# EAGLE library part M5-PQFP160 (library amd-mach)
AMD MACH SERIES
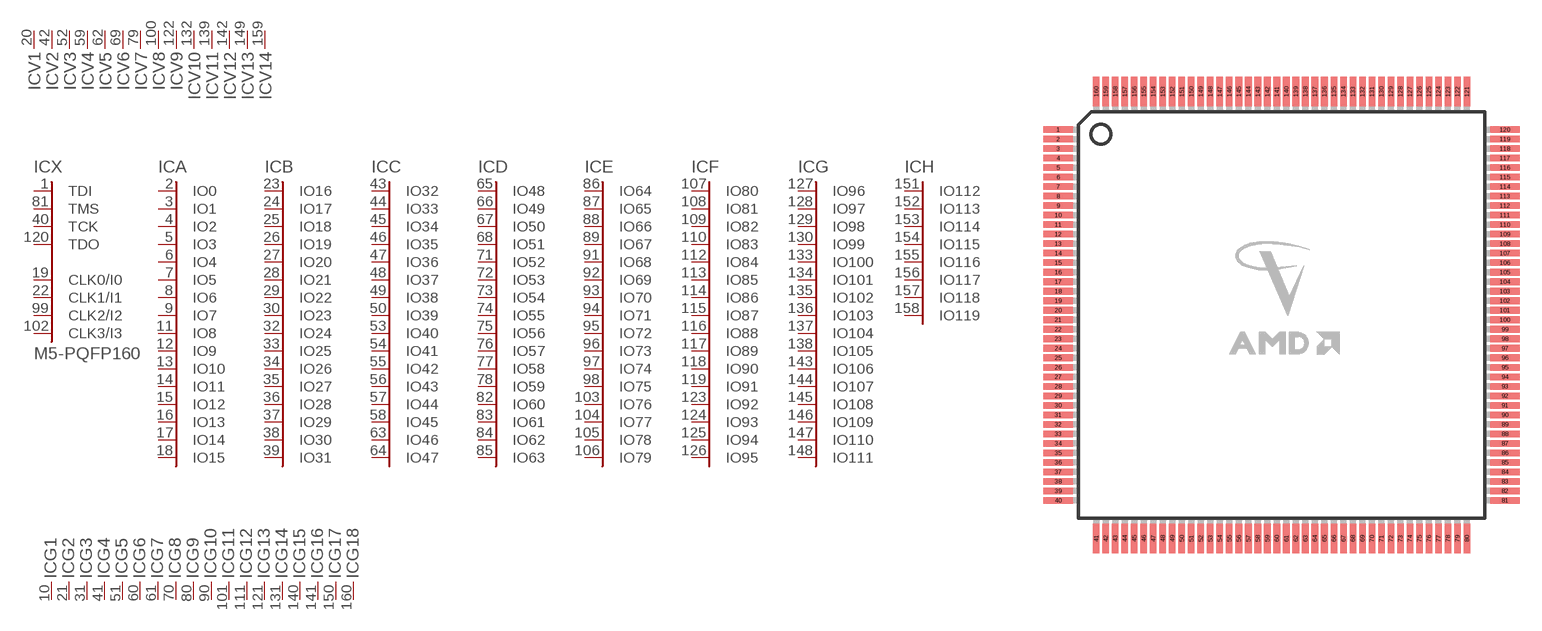
[diagram p19: symbol with the pads of PQFP160; footprint PQFP160]

Designator prefix IC; gates X=M5-CTRL A=IO15 B=IO31 C=IO47 D=IO63 E=IO79 F=IO95 G=IO111 H=IO119 G1=GND G2=GND G3=GND G4=GND G5=GND G6=GND G7=GND G8=GND G9=GND G10=GND G11=GND G12=GND G13=GND G14=GND G15=GND G16=GND G17=GND G18=GND V1=VCC V2=VCC V3=VCC V4=VCC V5=VCC V6=VCC V7=VCC V8=VCC V9=VCC V10=VCC V11=VCC V12=VCC V13=VCC V14=VCC

## M5-PQFP160 (OC_FARNELL: unknown; OC_NEWARK: unknown)  [PQFP160]
1  X:TDI  in
2  A:IO0
3  A:IO1
4  A:IO2
5  A:IO3
6  A:IO4
7  A:IO5
8  A:IO6
9  A:IO7
10  G1:GND  pwr
11  A:IO8
12  A:IO9
13  A:IO10
14  A:IO11
15  A:IO12
16  A:IO13
17  A:IO14
18  A:IO15
19  X:CLK0/I0  in
20  V1:VCC  pwr
21  G2:GND  pwr
22  X:CLK1/I1  in
23  B:IO16
24  B:IO17
25  B:IO18
26  B:IO19
27  B:IO20
28  B:IO21
29  B:IO22
30  B:IO23
31  G3:GND  pwr
32  B:IO24
33  B:IO25
34  B:IO26
35  B:IO27
36  B:IO28
37  B:IO29
38  B:IO30
39  B:IO31
40  X:TCK  in
41  G4:GND  pwr
42  V2:VCC  pwr
43  C:IO32
44  C:IO33
45  C:IO34
46  C:IO35
47  C:IO36
48  C:IO37
49  C:IO38
50  C:IO39
51  G5:GND  pwr
52  V3:VCC  pwr
53  C:IO40
54  C:IO41
55  C:IO42
56  C:IO43
57  C:IO44
58  C:IO45
59  V4:VCC  pwr
60  G6:GND  pwr
61  G7:GND  pwr
62  V5:VCC  pwr
63  C:IO46
64  C:IO47
65  D:IO48
66  D:IO49
67  D:IO50
68  D:IO51
69  V6:VCC  pwr
70  G8:GND  pwr
71  D:IO52
72  D:IO53
73  D:IO54
74  D:IO55
75  D:IO56
76  D:IO57
77  D:IO58
78  D:IO59
79  V7:VCC  pwr
80  G9:GND  pwr
81  X:TMS  in
82  D:IO60
83  D:IO61
84  D:IO62
85  D:IO63
86  E:IO64
87  E:IO65
88  E:IO66
89  E:IO67
90  G10:GND  pwr
91  E:IO68
92  E:IO69
93  E:IO70
94  E:IO71
95  E:IO72
96  E:IO73
97  E:IO74
98  E:IO75
99  X:CLK2/I2  in
100  V8:VCC  pwr
101  G11:GND  pwr
102  X:CLK3/I3  in
103  E:IO76
104  E:IO77
105  E:IO78
106  E:IO79
107  F:IO80
108  F:IO81
109  F:IO82
110  F:IO83
111  G12:GND  pwr
112  F:IO84
113  F:IO85
114  F:IO86
115  F:IO87
116  F:IO88
117  F:IO89
118  F:IO90
119  F:IO91
120  X:TDO  in
121  G13:GND  pwr
122  V9:VCC  pwr
123  F:IO92
124  F:IO93
125  F:IO94
126  F:IO95
127  G:IO96
128  G:IO97
129  G:IO98
130  G:IO99
131  G14:GND  pwr
132  V10:VCC  pwr
133  G:IO100
134  G:IO101
135  G:IO102
136  G:IO103
137  G:IO104
138  G:IO105
139  V11:VCC  pwr
140  G15:GND  pwr
141  G16:GND  pwr
142  V12:VCC  pwr
143  G:IO106
144  G:IO107
145  G:IO108
146  G:IO109
147  G:IO110
148  G:IO111
149  V13:VCC  pwr
150  G17:GND  pwr
151  H:IO112
152  H:IO113
153  H:IO114
154  H:IO115
155  H:IO116
156  H:IO117
157  H:IO118
158  H:IO119
159  V14:VCC  pwr
160  G18:GND  pwr

## Footprint PQFP160 (pad centres in mm)
PLASTIC QUAD FLAT PACK
smd 2 x 0.45: 1 -15.275,12.675; 2 -15.275,12.025; 3 -15.275,11.375; 4 -15.275,10.725; 5 -15.275,10.075; 6 -15.275,9.425; 7 -15.275,8.775; 8 -15.275,8.125; 9 -15.275,7.475; 10 -15.275,6.825; 11 -15.275,6.175; 12 -15.275,5.525; 13 -15.275,4.875; 14 -15.275,4.225; 15 -15.275,3.575; 16 -15.275,2.925; 17 -15.275,2.275; 18 -15.275,1.625; 19 -15.275,0.975; 20 -15.275,0.325; 21 -15.275,-0.325; 22 -15.275,-0.975; 23 -15.275,-1.625; 24 -15.275,-2.275; 25 -15.275,-2.925; 26 -15.275,-3.575; 27 -15.275,-4.225; 28 -15.275,-4.875; 29 -15.275,-5.525; 30 -15.275,-6.175; 31 -15.275,-6.825; 32 -15.275,-7.475; 33 -15.275,-8.125; 34 -15.275,-8.775; 35 -15.275,-9.425; 36 -15.275,-10.075; 37 -15.275,-10.725; 38 -15.275,-11.375; 39 -15.275,-12.025; 40 -15.275,-12.675; 81 15.275,-12.675; 82 15.275,-12.025; 83 15.275,-11.375; 84 15.275,-10.725; 85 15.275,-10.075; 86 15.275,-9.425; 87 15.275,-8.775; 88 15.275,-8.125; 89 15.275,-7.475; 90 15.275,-6.825; 91 15.275,-6.175; 92 15.275,-5.525; 93 15.275,-4.875; 94 15.275,-4.225; 95 15.275,-3.575; 96 15.275,-2.925; 97 15.275,-2.275; 98 15.275,-1.625; 99 15.275,-0.975; 100 15.275,-0.325; 101 15.275,0.325; 102 15.275,0.975; 103 15.275,1.625; 104 15.275,2.275; 105 15.275,2.925; 106 15.275,3.575; 107 15.275,4.225; 108 15.275,4.875; 109 15.275,5.525; 110 15.275,6.175; 111 15.275,6.825; 112 15.275,7.475; 113 15.275,8.125; 114 15.275,8.775; 115 15.275,9.425; 116 15.275,10.075; 117 15.275,10.725; 118 15.275,11.375; 119 15.275,12.025; 120 15.275,12.675
smd 0.45 x 2: 41 -12.675,-15.275; 42 -12.025,-15.275; 43 -11.375,-15.275; 44 -10.725,-15.275; 45 -10.075,-15.275; 46 -9.425,-15.275; 47 -8.775,-15.275; 48 -8.125,-15.275; 49 -7.475,-15.275; 50 -6.825,-15.275; 51 -6.175,-15.275; 52 -5.525,-15.275; 53 -4.875,-15.275; 54 -4.225,-15.275; 55 -3.575,-15.275; 56 -2.925,-15.275; 57 -2.275,-15.275; 58 -1.625,-15.275; 59 -0.975,-15.275; 60 -0.325,-15.275; 61 0.325,-15.275; 62 0.975,-15.275; 63 1.625,-15.275; 64 2.275,-15.275; 65 2.925,-15.275; 66 3.575,-15.275; 67 4.225,-15.275; 68 4.875,-15.275; 69 5.525,-15.275; 70 6.175,-15.275; 71 6.825,-15.275; 72 7.475,-15.275; 73 8.125,-15.275; 74 8.775,-15.275; 75 9.425,-15.275; 76 10.075,-15.275; 77 10.725,-15.275; 78 11.375,-15.275; 79 12.025,-15.275; 80 12.675,-15.275; 121 12.675,15.275; 122 12.025,15.275; 123 11.375,15.275; 124 10.725,15.275; 125 10.075,15.275; 126 9.425,15.275; 127 8.775,15.275; 128 8.125,15.275; 129 7.475,15.275; 130 6.825,15.275; 131 6.175,15.275; 132 5.525,15.275; 133 4.875,15.275; 134 4.225,15.275; 135 3.575,15.275; 136 2.925,15.275; 137 2.275,15.275; 138 1.625,15.275; 139 0.975,15.275; 140 0.325,15.275; 141 -0.325,15.275; 142 -0.975,15.275; 143 -1.625,15.275; 144 -2.275,15.275; 145 -2.925,15.275; 146 -3.575,15.275; 147 -4.225,15.275; 148 -4.875,15.275; 149 -5.525,15.275; 150 -6.175,15.275; 151 -6.825,15.275; 152 -7.475,15.275; 153 -8.125,15.275; 154 -8.775,15.275; 155 -9.425,15.275; 156 -10.075,15.275; 157 -10.725,15.275; 158 -11.375,15.275; 159 -12.025,15.275; 160 -12.675,15.275